# Altium schematic symbol library Schlib_indicator.SchLib: 6 symbols
Pins are listed as number, name and electrical type; pins without a type are passive.

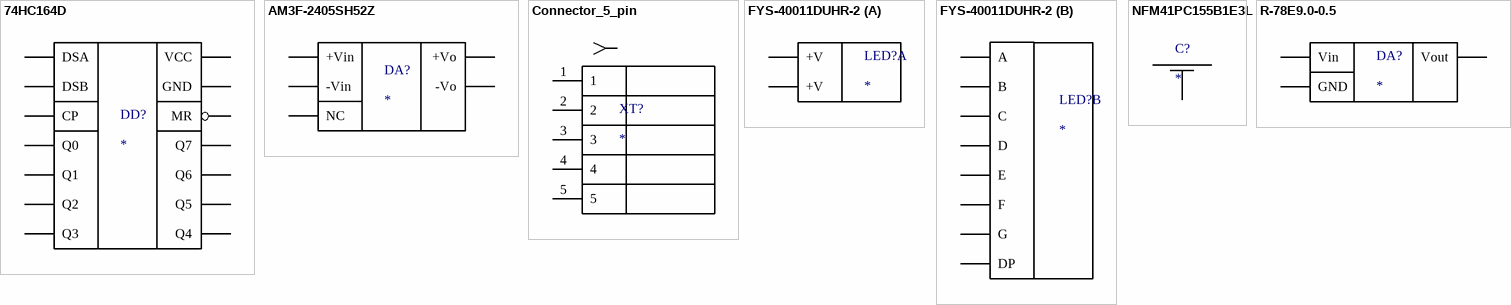
[diagram p0: symbols 74HC164D to R-78E9.0-0.5]

## 74HC164D
designator DD?
Сдвиговый регистр с push-pull выходом
footprint 14-SOIC (pitch 1.27 mm)
pins: 1 DSA, 2 DSB, 3 Q0, 4 Q1, 5 Q2, 6 Q3, 7 GND, 8 CP, 9 MR (power), 10 Q4, 11 Q5, 12 Q6, 13 Q7, 14 VCC

## AM3F-2405SH52Z
designator DA?
DC/DC преобразователь, 3Вт, вход 21.6…26.4В, выход 5В/600мА
footprint AM3F-2405SH52Z (DC-DC 5V)
pins: 1 +Vin, 2 NC, 3 NC, 9 NC, 10 -Vo, 11 +Vo, 12 -Vin

## Connector_5_pin
designator XT?
footprint Connector_5-pin
pins: 1, 2, 3, 4, 5

## FYS-40011DUHR-2
designator LED?
БОЛЬШОЙ 7- сегментный индикатор
footprint FYS-40011DUHR-2 (Большой семисегментый индикатор)
part A pins: 3 +V, 8 +V
part B pins: 1 E, 2 D, 4 C, 5 DP, 6 B, 7 A, 9 F, 10 G

## NFM41PC155B1E3L
designator C?
Керамический фильтр SMD 1812
footprint NFM41PC155B1E3L
pins: 1, 2, 3 GND

## R-78E9.0-0.5
designator DA?
DC/DC преобразователь, вход 12-28В, выход 9В/500мА
footprint R-78E9.0-0.5
pins: 1 Vin, 2 GND, 3 Vout